# Altium footprint library RJ45.PcbLib: 1 footprints
Each footprint in its own frame and in the unit in brackets; x right, y up, seen from the top. Pads: shape width x height; smd on the part's side, far side on the other; paste and mask are expansions set on the pad; w line width, h text height; cw(c..) or ccw(c..) is an arc to the next point about the centre after c.
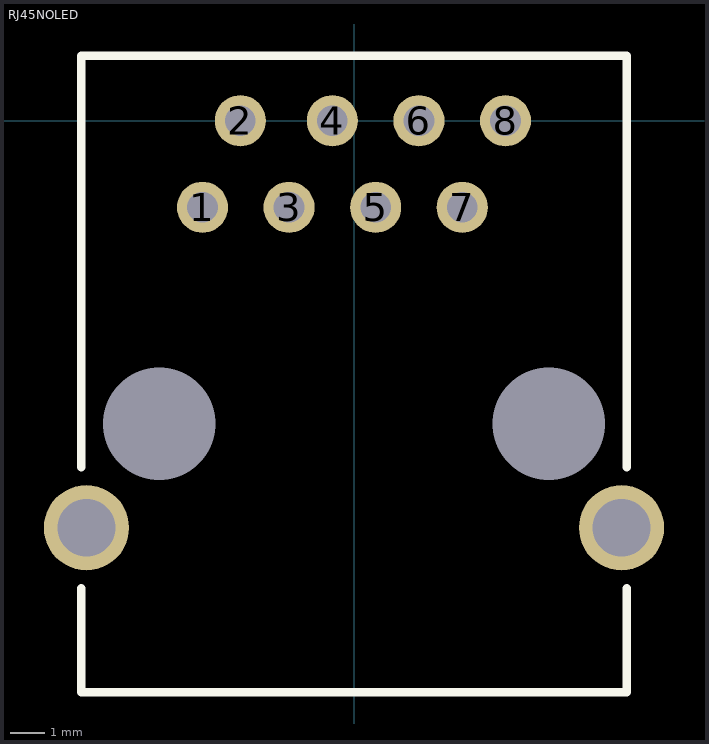
[diagram p0: the footprint, top view; thin cyan lines are the x and y axes]

## RJ45NOLED [mm] "Connector RJ45 without led status"
pads (12):
  round 1.5 hole 0.9: 1(-4.445,-2.54) 2(-3.334,0) 3(-1.905,-2.54) 4(-0.635,0) 5(0.635,-2.54) 6(1.905,0) 7(3.175,-2.54) 8(4.445,0)
  round 2.5 hole 1.7: ""(-7.85,-11.94) ""(7.85,-11.94)
  round 0 hole 3.3: ""(-5.715,-8.89) ""(5.715,-8.89)
Top Overlay:
  lines w0.254: -8.001,-13.716 -8.001,-16.764 8.001,-16.764 8.001,-13.716 ; -8.001,-10.16 -8.001,1.905 8.001,1.905 8.001,-10.16
3D body: height 13.3, standoff -3.5, extent -8,-16.795 8,1.905